# Altium footprint library ElectroMechanical.PcbLib: 19 footprints (part 1 of 2)
Each footprint in its own frame and in the unit in brackets; x right, y up, seen from the top. Pads: shape width x height; smd on the part's side, far side on the other; paste and mask are expansions set on the pad; w line width, h text height; cw(c..) or ccw(c..) is an arc to the next point about the centre after c.
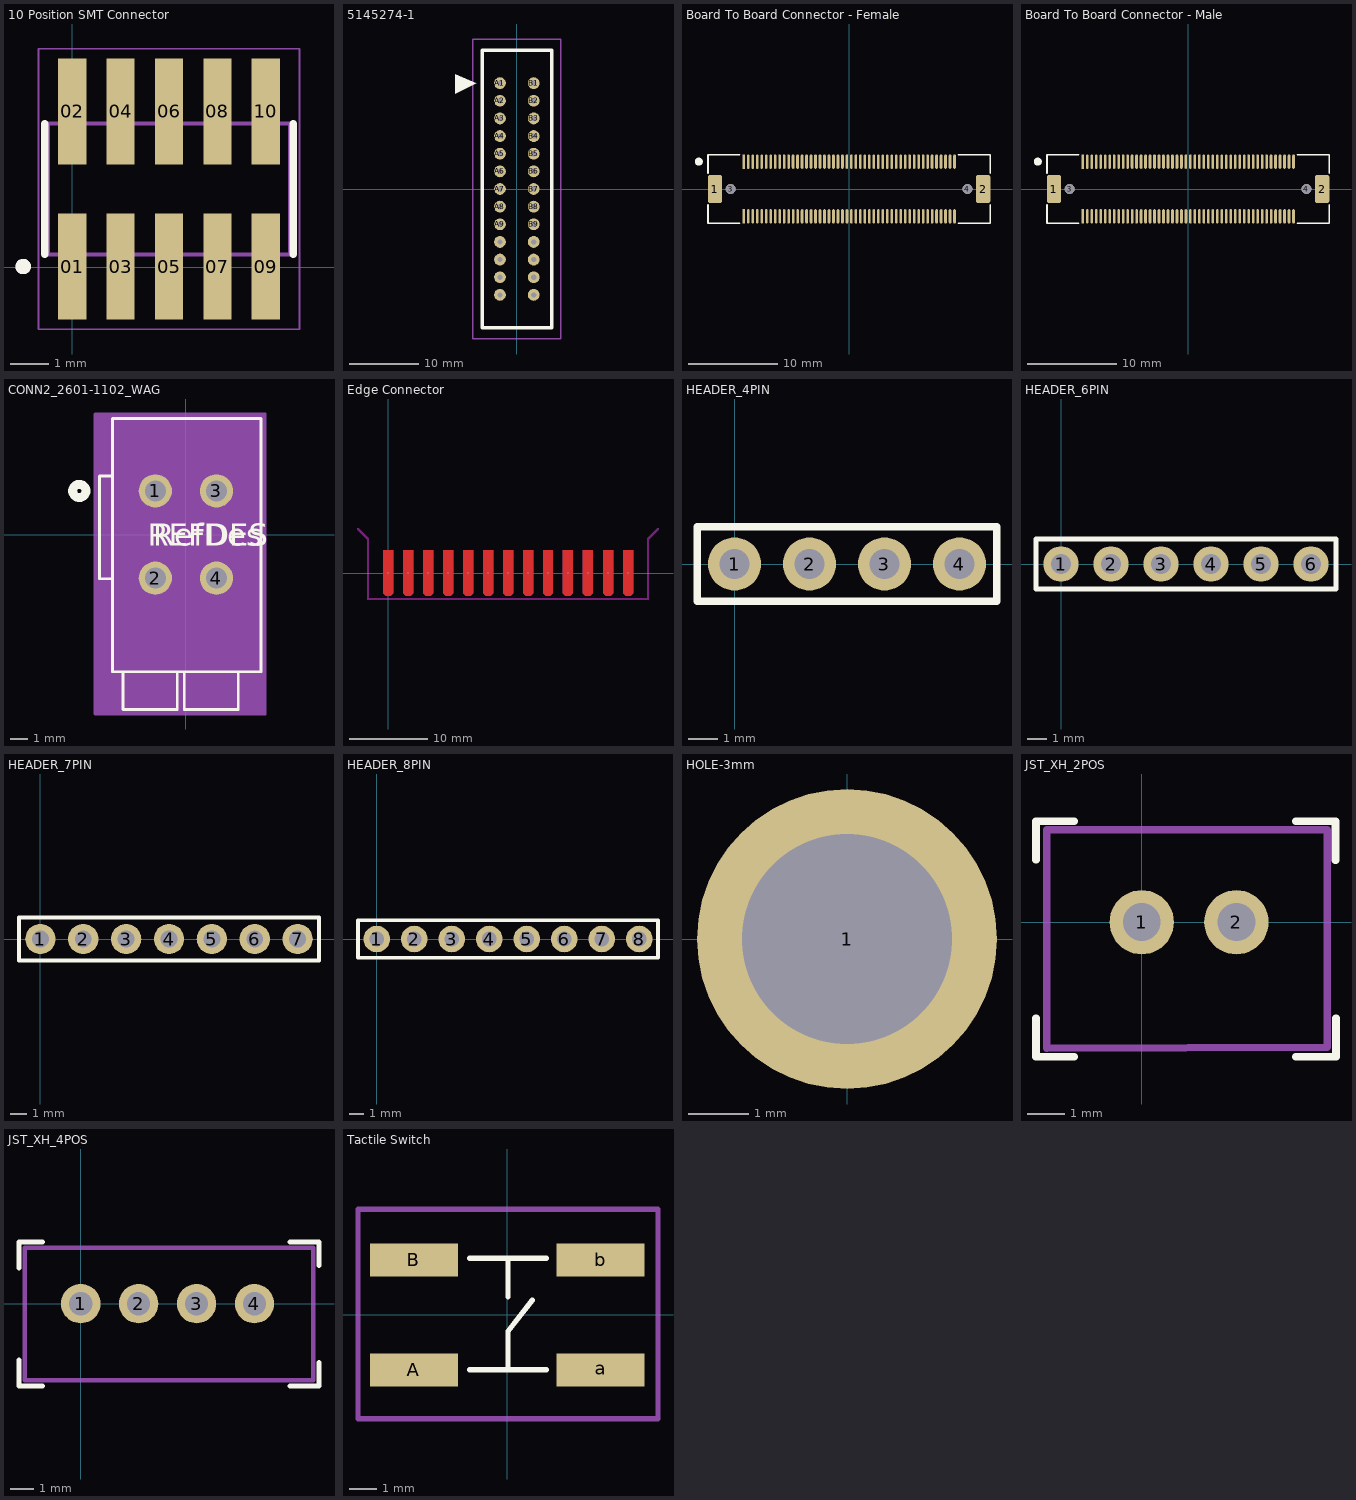
[diagram p0: the footprints below, top view; thin cyan lines are the x and y axes]

## 10 Position SMT Connector [mm]
pads (10):
  rect 0.74x2.79 smd: 01(0,0.022) 02(0,4.092) 03(1.27,0.022) 04(1.27,4.092) 05(2.54,0.022) 06(2.54,4.092) 07(3.81,0.022) 08(3.81,4.092) 09(5.08,0.022) 10(5.08,4.092)
Top Overlay:
  circle w0.2: c-1.285,0.022 r0.1
  lines w0.2: -0.72,0.342 -0.72,3.772 ; 5.8,0.342 5.8,3.772
Mechanical 13:
  circle w0.2: c-1.285,0.022 r0.1
  lines w0.1: -0.635,0.342 -0.635,3.772 ; -0.635,0.342 5.715,0.342 ; -0.635,0.342 -0.635,3.772 ; -0.635,3.772 5.715,3.772 ; -0.635,3.772 5.715,3.772 ; 5.715,0.342 5.715,3.772 ; 5.715,0.342 5.715,3.772
Mechanical 15:
  lines w0.05: -0.885,-1.623 -0.885,5.737 5.965,5.737 5.965,-1.623 -0.885,-1.623
3D body "FTSH-105-01-L-DV-K-P-TR.stp": height 6.96, standoff -0.03, extent -0.635,-1.626 5.715,5.74

## 5145274-1 [mm]
pads (26):
  round 1.7 hole 0.75: A1(-2.425,15.24) A2(-2.425,12.7) A3(-2.425,10.16) A4(-2.425,7.62) A5(-2.425,5.08) A6(-2.425,2.54) A7(-2.425,0) A8(-2.425,-2.54) A9(-2.425,-5.08) A10(-2.425,-7.62) A11(-2.425,-10.16) A12(-2.425,-12.7) A13(-2.425,-15.24) B1(2.425,15.24) B2(2.425,12.7) B3(2.425,10.16) B4(2.425,7.62) B5(2.425,5.08) B6(2.425,2.54) B7(2.425,0) B8(2.425,-2.54) B9(2.425,-5.08) B10(2.425,-7.62) B11(2.425,-10.16) B12(2.425,-12.7) B13(2.425,-15.24)
Top Overlay:
  region: -5.842,15.24 -8.89,16.51 -8.89,13.716
  lines w0.5: -5,-20 -5,-18.5 -5,18.5 -5,20 5,20 5,18.5 5,-18.5 5,-20 -5,-20
Mechanical 15:
  lines w0.2: -6.35,-21.59 6.35,-21.59 6.35,21.59 -6.35,21.59 -6.35,-21.59
3D body "c-5145274-1-d-3d.stp": height 15, standoff -5.3, extent -4.674,-19.812 4.674,19.812

## Board To Board Connector - Female [mm]
pads (100):
  rrect25% 1.6x3.1 smd: 1(-14.95,0) 2(14.95,0)
  round 1.1 hole 1.1: 3(-13.2,0) 4(13.2,0)
  rect 0.3x1.6 smd: A1(-11.737,-3.05) B1(-11.74,3.05)
  oval 0.3x1.6 smd: A2(-11.237,-3.05) A3(-10.737,-3.05) A4(-10.237,-3.05) A5(-9.737,-3.05) A6(-9.237,-3.05) A7(-8.737,-3.05) A8(-8.237,-3.05) A9(-7.737,-3.05) A10(-7.237,-3.05) A11(-6.737,-3.05) A12(-6.237,-3.05) A13(-5.737,-3.05) A14(-5.237,-3.05) A15(-4.737,-3.05) A16(-4.237,-3.05) A17(-3.737,-3.05) A18(-3.237,-3.05) A19(-2.737,-3.05) A20(-2.237,-3.05) A21(-1.737,-3.05) A22(-1.237,-3.05) A23(-0.737,-3.05) A24(-0.237,-3.05) A25(0.263,-3.05) A26(0.763,-3.05) A27(1.263,-3.05) A28(1.763,-3.05) A29(2.263,-3.05) A30(2.763,-3.05) A31(3.263,-3.05) A32(3.763,-3.05) A33(4.263,-3.05) A34(4.763,-3.05) A35(5.263,-3.05) A36(5.763,-3.05) A37(6.263,-3.05) A38(6.763,-3.05) A39(7.263,-3.05) A40(7.763,-3.05) A41(8.263,-3.05) A42(8.763,-3.05) A43(9.263,-3.05) A44(9.763,-3.05) A45(10.263,-3.05) A46(10.763,-3.05) A47(11.263,-3.05) A48(11.763,-3.05) B2(-11.24,3.05) B3(-10.74,3.05) B4(-10.24,3.05) B5(-9.74,3.05) B6(-9.24,3.05) B7(-8.74,3.05) B8(-8.24,3.05) B9(-7.74,3.05) B10(-7.24,3.05) B11(-6.74,3.05) B12(-6.24,3.05) B13(-5.74,3.05) B14(-5.24,3.05) B15(-4.74,3.05) B16(-4.24,3.05) B17(-3.74,3.05) B18(-3.24,3.05) B19(-2.74,3.05) B20(-2.24,3.05) B21(-1.74,3.05) B22(-1.24,3.05) B23(-0.74,3.05) B24(-0.24,3.05) B25(0.26,3.05) B26(0.76,3.05) B27(1.26,3.05) B28(1.76,3.05) B29(2.26,3.05) B30(2.76,3.05) B31(3.26,3.05) B32(3.76,3.05) B33(4.26,3.05) B34(4.76,3.05) B35(5.26,3.05) B36(5.76,3.05) B37(6.26,3.05) B38(6.76,3.05) B39(7.26,3.05) B40(7.76,3.05) B41(8.26,3.05) B42(8.76,3.05) B43(9.26,3.05) B44(9.76,3.05) B45(10.26,3.05) B46(10.76,3.05) B47(11.26,3.05) B48(11.763,3.05)
Top Overlay:
  circle w0.5: c-16.756,3.048 r0.2
  lines w0.2: -15.74,-1.778 -15.74,-3.81 -12.184,-3.81 ; -15.74,1.778 -15.74,3.81 -12.184,3.81 ; 12.2,-3.81 15.756,-3.81 15.756,-1.778 ; 12.2,3.81 15.756,3.81 15.756,1.778
3D body "FX10A-96P-SV-71---3DModel-STEP-1.STEP": height 3.51, standoff -0.59, extent -15.53,-2.975 15.57,2.925

## Board To Board Connector - Male [mm]
pads (100):
  rrect25% 1.6x3.1 smd: 1(-14.95,0) 2(14.95,0)
  round 1.1 hole 1.1: 3(-13.2,0) 4(13.2,0)
  rect 0.3x1.6 smd: A1(-11.737,-3.05) B1(-11.74,3.05)
  oval 0.3x1.6 smd: A2(-11.237,-3.05) A3(-10.737,-3.05) A4(-10.237,-3.05) A5(-9.737,-3.05) A6(-9.237,-3.05) A7(-8.737,-3.05) A8(-8.237,-3.05) A9(-7.737,-3.05) A10(-7.237,-3.05) A11(-6.737,-3.05) A12(-6.237,-3.05) A13(-5.737,-3.05) A14(-5.237,-3.05) A15(-4.737,-3.05) A16(-4.237,-3.05) A17(-3.737,-3.05) A18(-3.237,-3.05) A19(-2.737,-3.05) A20(-2.237,-3.05) A21(-1.737,-3.05) A22(-1.237,-3.05) A23(-0.737,-3.05) A24(-0.237,-3.05) A25(0.263,-3.05) A26(0.763,-3.05) A27(1.263,-3.05) A28(1.763,-3.05) A29(2.263,-3.05) A30(2.763,-3.05) A31(3.263,-3.05) A32(3.763,-3.05) A33(4.263,-3.05) A34(4.763,-3.05) A35(5.263,-3.05) A36(5.763,-3.05) A37(6.263,-3.05) A38(6.763,-3.05) A39(7.263,-3.05) A40(7.763,-3.05) A41(8.263,-3.05) A42(8.763,-3.05) A43(9.263,-3.05) A44(9.763,-3.05) A45(10.263,-3.05) A46(10.763,-3.05) A47(11.263,-3.05) A48(11.763,-3.05) B2(-11.24,3.05) B3(-10.74,3.05) B4(-10.24,3.05) B5(-9.74,3.05) B6(-9.24,3.05) B7(-8.74,3.05) B8(-8.24,3.05) B9(-7.74,3.05) B10(-7.24,3.05) B11(-6.74,3.05) B12(-6.24,3.05) B13(-5.74,3.05) B14(-5.24,3.05) B15(-4.74,3.05) B16(-4.24,3.05) B17(-3.74,3.05) B18(-3.24,3.05) B19(-2.74,3.05) B20(-2.24,3.05) B21(-1.74,3.05) B22(-1.24,3.05) B23(-0.74,3.05) B24(-0.24,3.05) B25(0.26,3.05) B26(0.76,3.05) B27(1.26,3.05) B28(1.76,3.05) B29(2.26,3.05) B30(2.76,3.05) B31(3.26,3.05) B32(3.76,3.05) B33(4.26,3.05) B34(4.76,3.05) B35(5.26,3.05) B36(5.76,3.05) B37(6.26,3.05) B38(6.76,3.05) B39(7.26,3.05) B40(7.76,3.05) B41(8.26,3.05) B42(8.76,3.05) B43(9.26,3.05) B44(9.76,3.05) B45(10.26,3.05) B46(10.76,3.05) B47(11.26,3.05) B48(11.763,3.05)
Top Overlay:
  circle w0.5: c-16.756,3.048 r0.2
  lines w0.2: -15.74,-1.778 -15.74,-3.81 -12.184,-3.81 ; -15.74,1.778 -15.74,3.81 -12.184,3.81 ; 12.2,-3.81 15.756,-3.81 15.756,-1.778 ; 12.2,3.81 15.756,3.81 15.756,1.778
3D body "FX10A-96S-SV.stp": height 3.22, standoff -0.58, extent -15.537,-3.65 15.563,3.65

## CONN2_2601-1102_WAG [mm]
pads (4):
  round 1.9 / inner round 1.524 / far side round 1.9 hole 1.2 paste-0.95 mask+0: 1(-1.75,2.5) 2(-1.75,-2.5) 3(1.75,2.5) 4(1.75,-2.5)
Top Overlay:
  circle w0.508: c-6.105,2.5 r0.381
  lines w0.152: -4.2,-2.534 -4.95,-2.534 -4.95,3.35 -4.2,3.35 ; -3.6,-7.85 -3.6,-10.025 -0.5,-10.025 -0.5,-7.85 ; -0.1,-7.85 -0.1,-10.025 3,-10.025 3,-7.85 ; -4.2,-7.85 -4.2,6.65 4.3,6.65 4.3,-7.85 -4.2,-7.85
  text "RefDes" at -1.855,-0.635 h1.27
  text "REFDES" at -2.172,-0.635 h1.27
Bottom Overlay:
  circle w0.508: c-6.105,2.5 r0.381
Mechanical 13:
  circle w0.508: c-1.75,4.405 r0.381
  lines w0.025: -4.2,-2.534 -4.95,-2.534 -4.95,3.35 -4.2,3.35 ; -3.6,-7.85 -3.6,-10.025 -0.5,-10.025 -0.5,-7.85 ; -0.1,-7.85 -0.1,-10.025 3,-10.025 3,-7.85 ; -4.2,-7.85 -4.2,6.65 4.3,6.65 4.3,-7.85 -4.2,-7.85
  text "RefDes2" at -2.172,-0.635 h1.27
Mechanical 15:
  region: 4.554,6.904 -5.204,6.904 -5.204,-10.279 4.554,-10.279
  lines w0.152: -5.204,-10.279 4.554,-10.279 4.554,6.904 -5.204,6.904 ; -5.204,-10.279 -5.204,6.904 ; -5.204,-10.279 -5.204,6.904
3D body "2601-1102.stp": height 12.75, standoff -3.6, extent -4.953,-9.916 4.297,6.664

## CONN RCPT 96POS SMD GOLD [mm]

## Edge Connector [mil]
pads (26):
  round 1 smd: A1(0,0) A2(100,0) A3(200,0) A4(300,0) A5(400,0) A6(500,0) A7(600,0) A8(700,0) A9(800,0) A10(900,0) A11(1000,0) A12(1100,0) A13(1200,0)
  round 1 smd far side: B1(0,0) B2(100,0) B3(200,0) B4(300,0) B5(400,0) B6(500,0) B7(600,0) B8(700,0) B9(800,0) B10(900,0) B11(1000,0) B12(1100,0) B13(1200,0)
Top Layer:
  region: 1175,-101.67 1187.5,-114.17 1212.5,-114.17 1225,-101.67 1225,114.17 1175,114.17
  region: 1075,-101.67 1087.5,-114.17 1112.5,-114.17 1125,-101.67 1125,114.17 1075,114.17
  region: 975,-101.67 987.5,-114.17 1012.5,-114.17 1025,-101.67 1025,114.17 975,114.17
  region: 875,-101.67 887.5,-114.17 912.5,-114.17 925,-101.67 925,114.17 875,114.17
  region: 775,-101.67 787.5,-114.17 812.5,-114.17 825,-101.67 825,114.17 775,114.17
  region: 675,-101.67 687.5,-114.17 712.5,-114.17 725,-101.67 725,114.17 675,114.17
  region: 575,-101.67 587.5,-114.17 612.5,-114.17 625,-101.67 625,114.17 575,114.17
  region: 475,-101.67 487.5,-114.17 512.5,-114.17 525,-101.67 525,114.17 475,114.17
  region: 375,-101.67 387.5,-114.17 412.5,-114.17 425,-101.67 425,114.17 375,114.17
  region: 275,-101.67 287.5,-114.17 312.5,-114.17 325,-101.67 325,114.17 275,114.17
  region: 175,-101.67 187.5,-114.17 212.5,-114.17 225,-101.67 225,114.17 175,114.17
  region: 75,-101.67 87.5,-114.17 112.5,-114.17 125,-101.67 125,114.17 75,114.17
  region: -25,-101.67 -12.5,-114.17 12.5,-114.17 25,-101.67 25,114.17 -25,114.17
Bottom Layer:
  region: 1175,-101.67 1187.5,-114.17 1212.5,-114.17 1225,-101.67 1225,114.17 1175,114.17
  region: 1075,-101.67 1087.5,-114.17 1112.5,-114.17 1125,-101.67 1125,114.17 1075,114.17
  region: 975,-101.67 987.5,-114.17 1012.5,-114.17 1025,-101.67 1025,114.17 975,114.17
  region: 875,-101.67 887.5,-114.17 912.5,-114.17 925,-101.67 925,114.17 875,114.17
  region: 775,-101.67 787.5,-114.17 812.5,-114.17 825,-101.67 825,114.17 775,114.17
  region: 675,-101.67 687.5,-114.17 712.5,-114.17 725,-101.67 725,114.17 675,114.17
  region: 575,-101.67 587.5,-114.17 612.5,-114.17 625,-101.67 625,114.17 575,114.17
  region: 475,-101.67 487.5,-114.17 512.5,-114.17 525,-101.67 525,114.17 475,114.17
  region: 375,-101.67 387.5,-114.17 412.5,-114.17 425,-101.67 425,114.17 375,114.17
  region: 275,-101.67 287.5,-114.17 312.5,-114.17 325,-101.67 325,114.17 275,114.17
  region: 175,-101.67 187.5,-114.17 212.5,-114.17 225,-101.67 225,114.17 175,114.17
  region: 75,-101.67 87.5,-114.17 112.5,-114.17 125,-101.67 125,114.17 75,114.17
  region: -25,-101.67 -12.5,-114.17 12.5,-114.17 25,-101.67 25,114.17 -25,114.17
Top Solder:
  region: -100,170 1300,170 1300,-130 -100,-130
Bottom Solder:
  region: -100,170 1300,170 1300,-130 -100,-130
Keep-Out Layer:
  lines w10: -150,220 -100,170 -100,-130 1300,-130 1300,170 1350,220

## HEADER_4PIN [mm]
pads (4):
  round 1.8 hole 1: 1(0,0) 2(2.54,0) 3(5.08,0) 4(7.62,0)
Top Overlay:
  lines w0.254: -1.27,-1.27 -1.27,1.27 8.89,1.27 8.89,-1.27 -1.27,-1.27
3D body "User Library-1x4 TH Pitch 2_54mm.STEP": height 9.2, standoff -3.5, extent -1.27,-1.27 8.89,1.27

## HEADER_6PIN [mm]
pads (6):
  round 1.8 hole 1: 1(0,0) 2(2.54,0) 3(5.08,0) 4(7.62,0) 5(10.16,0) 6(12.7,0)
Top Overlay:
  lines w0.254: -1.27,-1.27 13.97,-1.27 13.97,1.27 -1.27,1.27 -1.27,-1.27
3D body "User Library-PLS-6-1.step": height 8.54, standoff -3, extent -1.27,-1.27 13.97,1.27

## HEADER_7PIN [mm]
pads (7):
  round 1.8 hole 1: 1(0,0) 2(2.54,0) 3(5.08,0) 4(7.62,0) 5(10.16,0) 6(12.7,0) 7(15.24,0)
Top Overlay:
  lines w0.254: -1.27,-1.27 16.51,-1.27 16.51,1.27 -1.27,1.27 -1.27,-1.27
3D body "User Library-PLS-7.step": height 8.54, standoff -3, extent -1.27,-1.219 16.51,1.321

## HEADER_8PIN [mm]
pads (8):
  round 1.8 hole 1: 1(0,0) 2(2.54,0) 3(5.08,0) 4(7.62,0) 5(10.16,0) 6(12.7,0) 7(15.24,0) 8(17.78,0)
Top Overlay:
  lines w0.254: -1.27,-1.27 -1.27,1.27 19.05,1.27 19.05,-1.27 -1.27,-1.27
3D body "User Library-1x8 TH Pitch 2_54mm.STEP": height 9.2, standoff -3.5, extent -1.27,-1.27 19.05,1.27

## HOLE-3mm [mm]
pads (1):
  round 5 hole 3.5: 1(0,0)

## JST_XH_2POS [mm]
pads (2):
  round 1.7 hole 1: 1(0,0) 2(2.5,0)
Top Overlay:
  lines w0.2: -2.794,-2.54 -2.794,-3.556 -1.778,-3.556 ; -2.794,1.651 -2.794,2.667 -1.778,2.667 ; 4.064,-3.556 5.132,-3.556 5.132,-2.54 ; 4.064,2.667 5.119,2.667 5.119,1.634
Mechanical 13:
  lines w0.2: -2.515,-3.327 -2.515,2.438 4.902,2.438 4.902,-3.302 -2.515,-3.327
3D body "User Library-B2B-XH-A.STEP": height 7, standoff -3.4, extent -2.489,-3.319 4.911,2.431

## JST_XH_4POS [mm]
pads (4):
  round 1.7 hole 1: 1(0,0) 2(2.5,0) 3(5,0) 4(7.5,0)
Top Overlay:
  lines w0.2: -2.667,-2.413 -2.667,-3.556 -1.651,-3.556 ; -2.667,1.524 -2.667,2.667 -1.651,2.667 ; 9.017,-3.556 10.287,-3.556 10.287,-2.54 ; 9.017,2.667 10.287,2.667 10.287,1.651
Mechanical 13:
  lines w0.2: -2.413,-3.302 10.033,-3.302 10.033,2.413 -2.413,2.413 -2.413,-3.302
3D body "User Library-jst-b4b-xh-a-1.step": height 7, standoff -3.4, extent -2.408,-3.348 9.992,2.402

## Tactile Switch [mm]
pads (4):
  rect 3.2x1.2 smd: A(-3.4,-2) a(3.4,-2) B(-3.4,2) b(3.4,2)
Top Overlay:
  lines w0.2: -1.368,-2 1.426,-2 ; -1.368,2.064 1.426,2.064 ; 0.029,-2 0.029,-0.603 0.918,0.54 ; 0.029,0.667 0.029,2.064
Mechanical 15:
  lines w0.2: -5.432,-3.778 5.49,-3.778 5.49,3.842 -5.432,3.842 -5.432,-3.778
3D body "xb-ts-1159ub-x-b-w.stp": height 4.4, standoff 0.01, extent -3.493,-3.193 3.297,3.257

## TE_26-PIN-edge-connector [mm] "5145274-1 TE Connectivity"